# EAGLE library part SN74HC595DR (library SN74HC595DR)
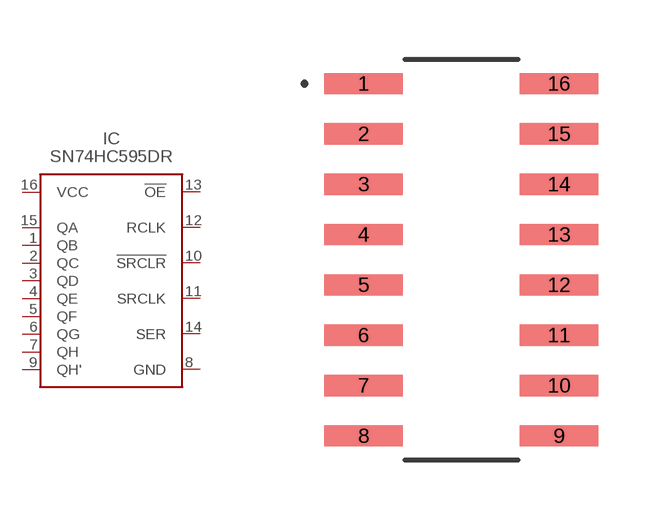
[diagram p0: symbol with the pads of SOIC-16; footprint SOIC-16]

Designator prefix IC

## SN74HC595DR  [SOIC-16]
1  QB
2  QC
3  QD
4  QE
5  QF
6  QG
7  QH
8  GND
9  QH'
10  !SRCLR
11  SRCLK
12  RCLK
13  !OE
14  SER
15  QA
16  VCC

## Footprint SOIC-16 (pad centres in mm)
smd 1.981 x 0.533: 1 -2.464,4.445; 2 -2.464,3.175; 3 -2.464,1.905; 4 -2.464,0.635; 5 -2.464,-0.635; 6 -2.464,-1.905; 7 -2.464,-3.175; 8 -2.464,-4.445; 9 2.464,-4.445; 10 2.464,-3.175; 11 2.464,-1.905; 12 2.464,-0.635; 13 2.464,0.635; 14 2.464,1.905; 15 2.464,3.175; 16 2.464,4.445